# Altium footprint library PcbLib1.PcbLib: 16 footprints
Each footprint in its own frame and in the unit in brackets; x right, y up, seen from the top. Pads: shape width x height; smd on the part's side, far side on the other; paste and mask are expansions set on the pad; w line width, h text height; cw(c..) or ccw(c..) is an arc to the next point about the centre after c.
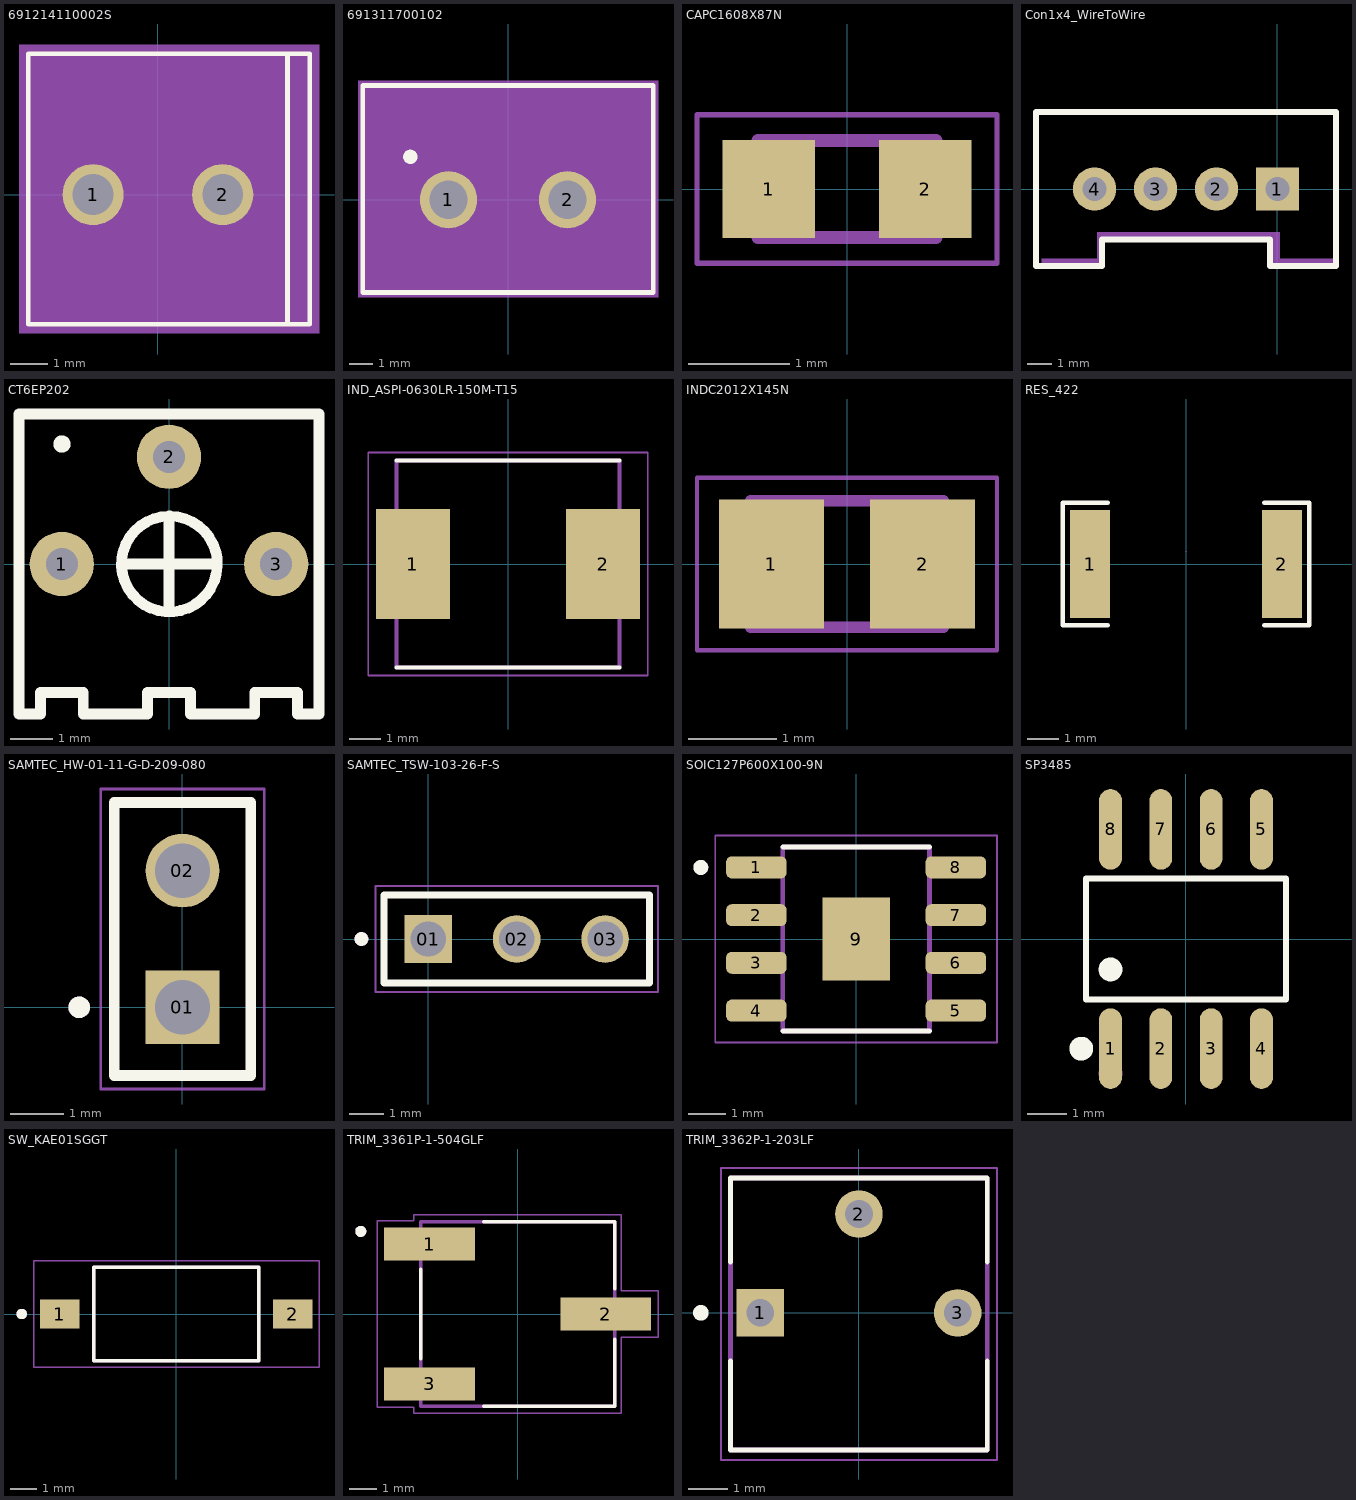
[diagram p0: the footprints below, top view; thin cyan lines are the x and y axes]

## 691214110002S [mm]
pads (2):
  round 1.65 hole 1.1: 1(-1.75,0) 2(1.75,0)
Top Overlay:
  lines w0.127: 3.5,-3.5 -3.5,-3.5 -3.5,3.8 3.5,3.8 ; 3.5,-3.5 4.1,-3.5 4.1,3.8 3.5,3.8 ; 3.5,-3.5 3.5,3.8
Mechanical 13:
  text "1" at -2.25,-2.5 h1.27
Mechanical 15:
  region: 4.35,-3.75 -3.75,-3.75 -3.75,4.05 4.35,4.05
3D body "691214110002s.stp": height 9.1, standoff -3.5, extent -3.518,-3.419 4.082,3.881

## 691311700102 [mm]
pads (2):
  round 2.4 hole 1.6: 1(-2.5,0) 2(2.5,0)
Top Overlay:
  circle w0.4: c-4.1,1.8 r0.1
  lines w0.2: -6.1,-3.9 6.1,-3.9 6.1,4.8 -6.1,4.8 -6.1,-3.9
Mechanical 1:
  text "'.Designator'" at -5.461,2.117 h1.02
Mechanical 13:
  lines w0.1: -6,-3.8 -6,4.7 6,4.7 6,-3.8 -6,-3.8
Mechanical 15:
  region: 6.3,-4.1 -6.3,-4.1 -6.3,5 6.3,5
3D body "691311700102.stp": height 6, standoff -10, extent -6,-3.869 6,4.631

## CAPC1608X87N [mm]
pads (2):
  rect 0.92x0.97 smd: 1(-0.775,0) 2(0.775,0)
Mechanical 13:
  lines w0.127: -0.88,-0.48 0.88,-0.48 0.88,0.48 -0.88,0.48 -0.88,-0.48
Mechanical 15:
  lines w0.05: -1.485,-0.735 1.485,-0.735 1.485,0.735 -1.485,0.735 -1.485,-0.735
3D body "C0603C103J5REC7411.STEP": height 0.81, standoff 0.01, extent -0.85,-0.445 0.75,0.425

## Con1x4_WireToWire [mm]
pads (4):
  rect 1.8x1.8 hole 1: 1(0,0)
  round 1.8 hole 1: 2(-2.54,0) 3(-5.08,0) 4(-7.62,0)
Top Overlay:
  lines w0.254: -10.06,-3.2 -10.06,3.2 2.44,3.2 2.44,-3.2 ; -10.01,-3.2 -7.31,-3.2 -7.31,-2.1 -0.31,-2.1 -0.31,-3.2 2.39,-3.2
Mechanical 1:
  text "'.Designator'" at -9.146,0.993 h1.02
Mechanical 15:
  region: -7.31,-3.1 -7.31,-2.1 -0.31,-2.1 -0.31,-3.2 2.44,-3.2 2.44,-2.9 0.09,-2.9 0.09,-1.8 -7.51,-1.8 -7.51,-2.9 -9.81,-2.9 -9.81,-3.2 -7.41,-3.2

## CT6EP202 [mil]
pads (3):
  round 60 hole 30: 1(-100,0) 2(0,100) 3(100,0)
Top Overlay:
  lines w10: -100,115 ccw(c-99.95,112) -99.9,115 ; -40,0 40,0 ; 0,-40 0,40 ; 0,44.7 ccw(c0.4,-0.02) 0.8,44.7 ; 140,20 140,140 -140,140 -140,20 -140,-120 -140,-140 -120,-140 -120,-120 -80,-120 -80,-140 -20,-140 -20,-120 20,-120 20,-140 80,-140 80,-120 120,-120 120,-140 140,-140 140,-120 140,40
Mechanical 13:
  text "'.Designator'" at -122.87,-87.89 h40
Mechanical 15:
  lines w0.1: -0.01,13.74 0.01,13.76

## IND_ASPI-0630LR-150M-T15 [mm]
height 3
pads (2):
  rect 2.35x3.5 smd: 1(-3.025,0) 2(3.025,0)
Top Overlay:
  lines w0.127: -3.55,-3.3 3.55,-3.3 ; -3.55,3.3 3.55,3.3
Mechanical 13:
  lines w0.127: -3.55,-3.3 -3.55,3.3 3.55,3.3 3.55,-3.3 -3.55,-3.3
Mechanical 15:
  lines w0.05: -4.45,-3.55 -4.45,3.55 4.45,3.55 4.45,-3.55 -4.45,-3.55
3D body "step_temp.STEP": height 1.35, standoff -1.65, extent -3.6,-3.325 3.6,3.325

## INDC2012X145N [mm]
pads (2):
  rect 1.2x1.47 smd: 1(-0.86,0) 2(0.86,0)
Mechanical 13:
  lines w0.127: -1.1,-0.72 -1.1,0.72 1.1,0.72 1.1,-0.72 -1.1,-0.72
Mechanical 15:
  lines w0.05: -1.708,-0.983 -1.708,0.983 1.708,0.983 1.708,-0.983 -1.708,-0.983

## PCBComponent_1 - duplicate [mm]

## RES_422 [mm]
pads (2):
  rect 1.283x3.456 smd: 1(-3.066,0) 2(3.066,0)
Top Overlay:
  lines w0.152: -2.501,-1.957 -3.936,-1.957 -3.936,1.957 -2.501,1.957 ; 2.501,-1.957 3.936,-1.957 3.936,1.957 2.501,1.957
Top Paste:
  region: -2.425,-1.628 -2.425,-0.688 -2.525,-0.588 -2.761,-0.588 -2.861,-0.488 -2.861,0.488 -2.761,0.588 -2.525,0.588 -2.425,0.688 -2.425,1.628 -2.525,1.728 -3.608,1.728 -3.708,1.628 -3.708,-1.628 -3.608,-1.728 -2.525,-1.728
  region: 2.425,-1.628 2.425,-0.688 2.525,-0.588 2.761,-0.588 2.861,-0.488 2.861,0.488 2.761,0.588 2.525,0.588 2.425,0.688 2.425,1.628 2.525,1.728 3.608,1.728 3.708,1.628 3.708,-1.628 3.608,-1.728 2.525,-1.728
Mechanical 15:
  lines w0.003: 0,0.412 0,0.413

## SAMTEC_HW-01-11-G-D-209-080 [mm]
pads (2):
  rect 1.37x1.37 hole 1.02: 01(0,0)
  round 1.37 hole 1.02: 02(0,2.54)
Top Overlay:
  circle w0.2: c-1.92,0 r0.1
  lines w0.2: -1.27,-1.27 1.27,-1.27 1.27,3.81 -1.27,3.81 -1.27,-1.27
Mechanical 13:
  circle w0.2: c-1.92,0 r0.1
  lines w0.1: -1.27,-1.27 -1.27,3.81 ; -1.27,-1.27 1.27,-1.27 ; -1.27,-1.27 -1.27,3.81 ; -1.27,3.81 1.27,3.81 ; -1.27,3.81 1.27,3.81 ; 1.27,-1.27 1.27,3.81 ; 1.27,-1.27 1.27,3.81
Mechanical 15:
  lines w0.05: -1.52,-1.52 1.52,-1.52 1.52,4.06 -1.52,4.06 -1.52,-1.52
3D body "HW-01-11-G-D-209-080.stp": height 21.6, standoff -2.02, extent -1.143,-1.397 1.397,3.683

## SAMTEC_TSW-103-26-F-S [mm]
pads (3):
  rect 1.37x1.37 hole 1.02: 01(0,0)
  round 1.37 hole 1.02: 02(2.54,0) 03(5.08,0)
Top Overlay:
  circle w0.2: c-1.92,0 r0.1
  lines w0.2: -1.27,-1.27 -1.27,1.27 6.35,1.27 6.35,-1.27 -1.27,-1.27
Mechanical 13:
  circle w0.2: c-1.92,0 r0.1
  lines w0.1: -1.27,-1.27 -1.27,1.27 6.35,1.27 6.35,-1.27 -1.27,-1.27
Mechanical 15:
  lines w0.05: -1.52,-1.52 -1.52,1.52 6.6,1.52 6.6,-1.52 -1.52,-1.52

## SOIC127P600X100-9N [mm]
pads (9):
  rrect50% 1.61x0.58 smd: 1(-2.655,1.905) 2(-2.655,0.635) 3(-2.655,-0.635) 4(-2.655,-1.905) 5(2.655,-1.905) 6(2.655,-0.635) 7(2.655,0.635) 8(2.655,1.905)
  rect 1.8x2.2 smd paste-2: 9(0,0)
Top Overlay:
  circle w0.2: c-4.135,1.905 r0.1
  lines w0.127: -1.95,-2.45 1.95,-2.45 ; -1.95,2.45 1.95,2.45
Top Paste:
  region: 0.635,-0.77 -0.635,-0.77 -0.635,0.77 0.635,0.77
Mechanical 13:
  lines w0.127: -1.95,-2.45 1.95,-2.45 1.95,2.45 -1.95,2.45 -1.95,-2.45
Mechanical 15:
  lines w0.05: -3.75,-2.75 3.75,-2.75 3.75,2.75 -3.75,2.75 -3.75,-2.75

## SP3485 [mm]
pads (8):
  oval 0.574x2.036 smd: 1(-1.905,-2.768) 2(-0.635,-2.768) 3(0.635,-2.768) 4(1.905,-2.768) 5(1.905,2.768) 6(0.635,2.768) 7(-0.635,2.768) 8(-1.905,2.768)
Top Overlay:
  circle w0.3: c-2.644,-2.768 r0.15
  circle w0.3: c-1.905,-0.769 r0.15
  lines w0.152: -2.526,-1.521 2.526,-1.521 2.526,1.521 -2.526,1.521 -2.526,-1.521
Mechanical 1:
  text "'.Designator'" at -2.421,-0.007 h1.02
Mechanical 15:
  circle w0.3: c-1.905,-3.398 r0.15

## SW_KAE01SGGT [mm]
height 3.13
pads (2):
  rect 1.5x1.1 smd: 1(-4.45,0) 2(4.45,0)
Top Overlay:
  circle w0.2: c-5.91,0 r0.1
  lines w0.127: -3.15,-1.79 3.15,-1.79 3.15,1.79 -3.15,1.79 -3.15,-1.79
Mechanical 1:
  text "'.Designator'" at -2.796,-0.257 h1.02
Mechanical 13:
  circle w0.2: c-5.91,0 r0.1
  lines w0.127: -3.15,-1.79 3.15,-1.79 3.15,1.79 -3.15,1.79 -3.15,-1.79
Mechanical 15:
  lines w0.05: -5.45,-2.04 5.45,-2.04 5.45,2.04 -5.45,2.04 -5.45,-2.04
3D body "step_temp.STEP": height 3.13, standoff 0, extent -4.9,-1.79 4.9,1.79

## TRIM_3361P-1-504GLF [mm]
height 5.84
pads (3):
  rect 3.3x1.19 smd: 1(-3.2,2.54) 2(3.2,0) 3(-3.2,-2.54)
Top Overlay:
  circle w0.2: c-5.7,3 r0.1
  lines w0.127: -3.52,-1.625 -3.52,1.625 ; -1.23,-3.355 3.52,-3.355 3.52,-0.915 ; -1.23,3.355 3.52,3.355 3.52,0.915
Mechanical 1:
  text "'.Designator'" at -3.321,0.143 h1.02
Mechanical 13:
  circle w0.2: c-5.7,3 r0.1
  lines w0.127: -3.52,-3.355 -3.52,3.355 3.52,3.355 3.52,-3.355 -3.52,-3.355
Mechanical 15:
  lines w0.05: -5.1,-3.385 -5.1,3.385 -3.77,3.385 -3.77,3.605 3.77,3.605 3.77,0.845 5.1,0.845 5.1,-0.845 3.77,-0.845 3.77,-3.605 -3.77,-3.605 -3.77,-3.385 -5.1,-3.385
3D body "step_temp.STEP": height 5.84, standoff 0, extent -4.265,-3.355 4.265,3.355

## TRIM_3362P-1-203LF [mm]
pads (3):
  rect 1.222x1.222 hole 0.714: 1(-2.54,0)
  round 1.222 hole 0.714: 2(0,2.54) 3(2.54,0)
Top Overlay:
  circle w0.2: c-4.064,0 r0.1
  lines w0.127: -3.3,-3.53 3.3,-3.53 ; -3.3,-3.52 -3.3,-1.235 ; -3.3,1.305 -3.3,3.47 3.3,3.47 3.3,1.305 ; 3.3,-3.52 3.3,-1.235
Mechanical 1:
  text "'.Designator'" at -3.146,0.718 h1.02
Mechanical 13:
  lines w0.127: -3.3,-3.53 3.3,-3.53 3.3,3.47 -3.3,3.47 -3.3,-3.53
Mechanical 15:
  lines w0.05: -3.55,-3.78 3.55,-3.78 3.55,3.72 -3.55,3.72 -3.55,-3.78
3D body "3362p-1-203lf.stp": height 4.71, standoff -5.45, extent -3.34,-3.53 3.366,3.505